# EAGLE library part LED1X4 (library Traficon)
4 leds in one package
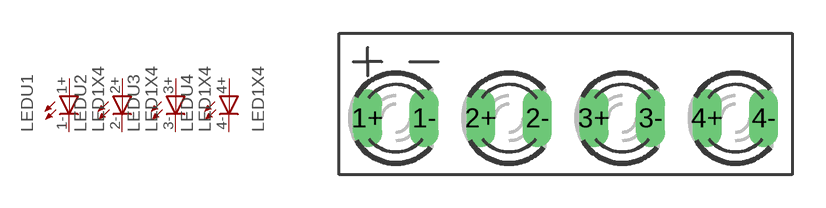
[diagram p31: symbol with the pads of LED1X4; footprint LED1X4]

Designator prefix LED; gates U1=LED U2=LED U3=LED U4=LED

## LED1X4  [LED1X4]
1+  U1:A  pas
1-  U1:C  pas
2+  U2:A  pas
2-  U2:C  pas
3+  U3:A  pas
3-  U3:C  pas
4+  U4:A  pas
4-  U4:C  pas

## Footprint LED1X4 (pad centres in mm)
drill 0.8 long: 1+ -7.62,0; 1- -5.08,0; 2+ -2.54,0; 2- 0,0; 3+ 2.54,0; 3- 5.08,0; 4+ 7.62,0; 4- 10.16,0